# Altium integrated library DS18B20&plus_.IntLib: 1 symbol
Pins are listed as number, name and electrical type; pins without a type are passive.

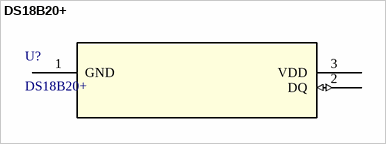
[diagram p0: symbol DS18B20+]

## DS18B20+
designator U?
Programmable Resolution 1-Wire Digital Thermometer; Manufacturer_Name: Analog Devices Inc; Copyright: Copyright (C) 2025 Ultra Librarian. All rights reserved.; Manufacturer_Part_Number: DS18B20+; RefDes: RefDes; Type: Type
footprint 21-0248A_Q3-1_MXM
pins: 1 GND (power), 2 DQ (io), 3 VDD (power)